# Altium integrated library PAM3802A.IntLib: 1 symbol
Pins are listed as number, name and electrical type; pins without a type are passive.

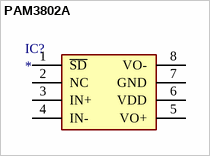
[diagram p0: symbol PAM3802A]

## PAM3802A
designator IC?
Datasheet: https://www.diodes.com/assets/Datasheets/PAM8302A.pdf; Package: MSOP 8 pines
footprint PAM3802AASCR (MSOP-8)
pins: 1 ~{SD}, 2 NC, 3 IN+, 4 IN-, 5 VO+, 6 VDD, 7 GND, 8 VO-